# EAGLE library part CS4334/5/8/9 (library IC & Transistor)
SMD Audio DAC CS4334/5/8/9
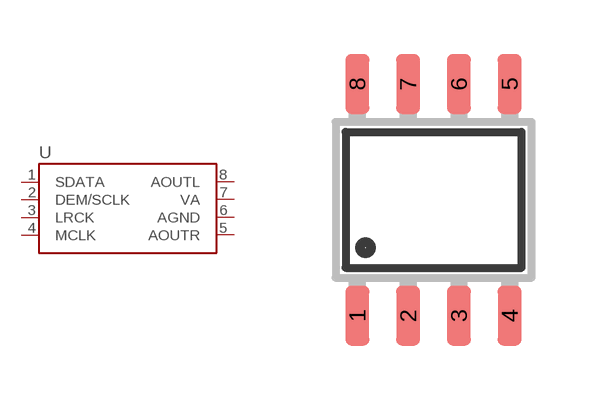
[diagram p50: symbol with the pads of SOIC-08N; footprint SOIC-08N]

Designator prefix -

## CS4334/5/8/9_(SOIC-08N) (CYTRON-PC: S-IC-CS433?-SO8; DESC: S Audio DAC CS433? SO8), CS4334/5/8/9_CS4334_(SOIC-08N) (CYTRON-PC: S-IC-CS4334-SO8; DESC: S Audio DAC CS4334 SO8; MF: Cirrus Logic; MPN: CS4334K)  [SOIC-08N]
1  SDATA
2  DEM/SCLK
3  LRCK
4  MCLK
5  AOUTR
6  AGND
7  VA
8  AOUTL

## Footprint SOIC-08N (pad centres in mm)
Small Outline Integrated Circuit (SOIC) Narrow (JEDEC) SOIC Package Size: 4.9mm x 3.9mm Lead Pitch: 1.27mm
smd 0.6 x 1.5: 1 -1.905,-2.9; 2 -0.635,-2.9; 3 0.635,-2.9; 4 1.905,-2.9; 5 1.905,2.9; 6 0.635,2.9; 7 -0.635,2.9; 8 -1.905,2.9